# Altium footprint library Altium Example Master PCB Library End.PcbLib: 217 footprints (part 7 of 14)
Each footprint in its own frame and in the unit in brackets; x right, y up, seen from the top. Pads: shape width x height; smd on the part's side, far side on the other; paste and mask are expansions set on the pad; w line width, h text height; cw(c..) or ccw(c..) is an arc to the next point about the centre after c.
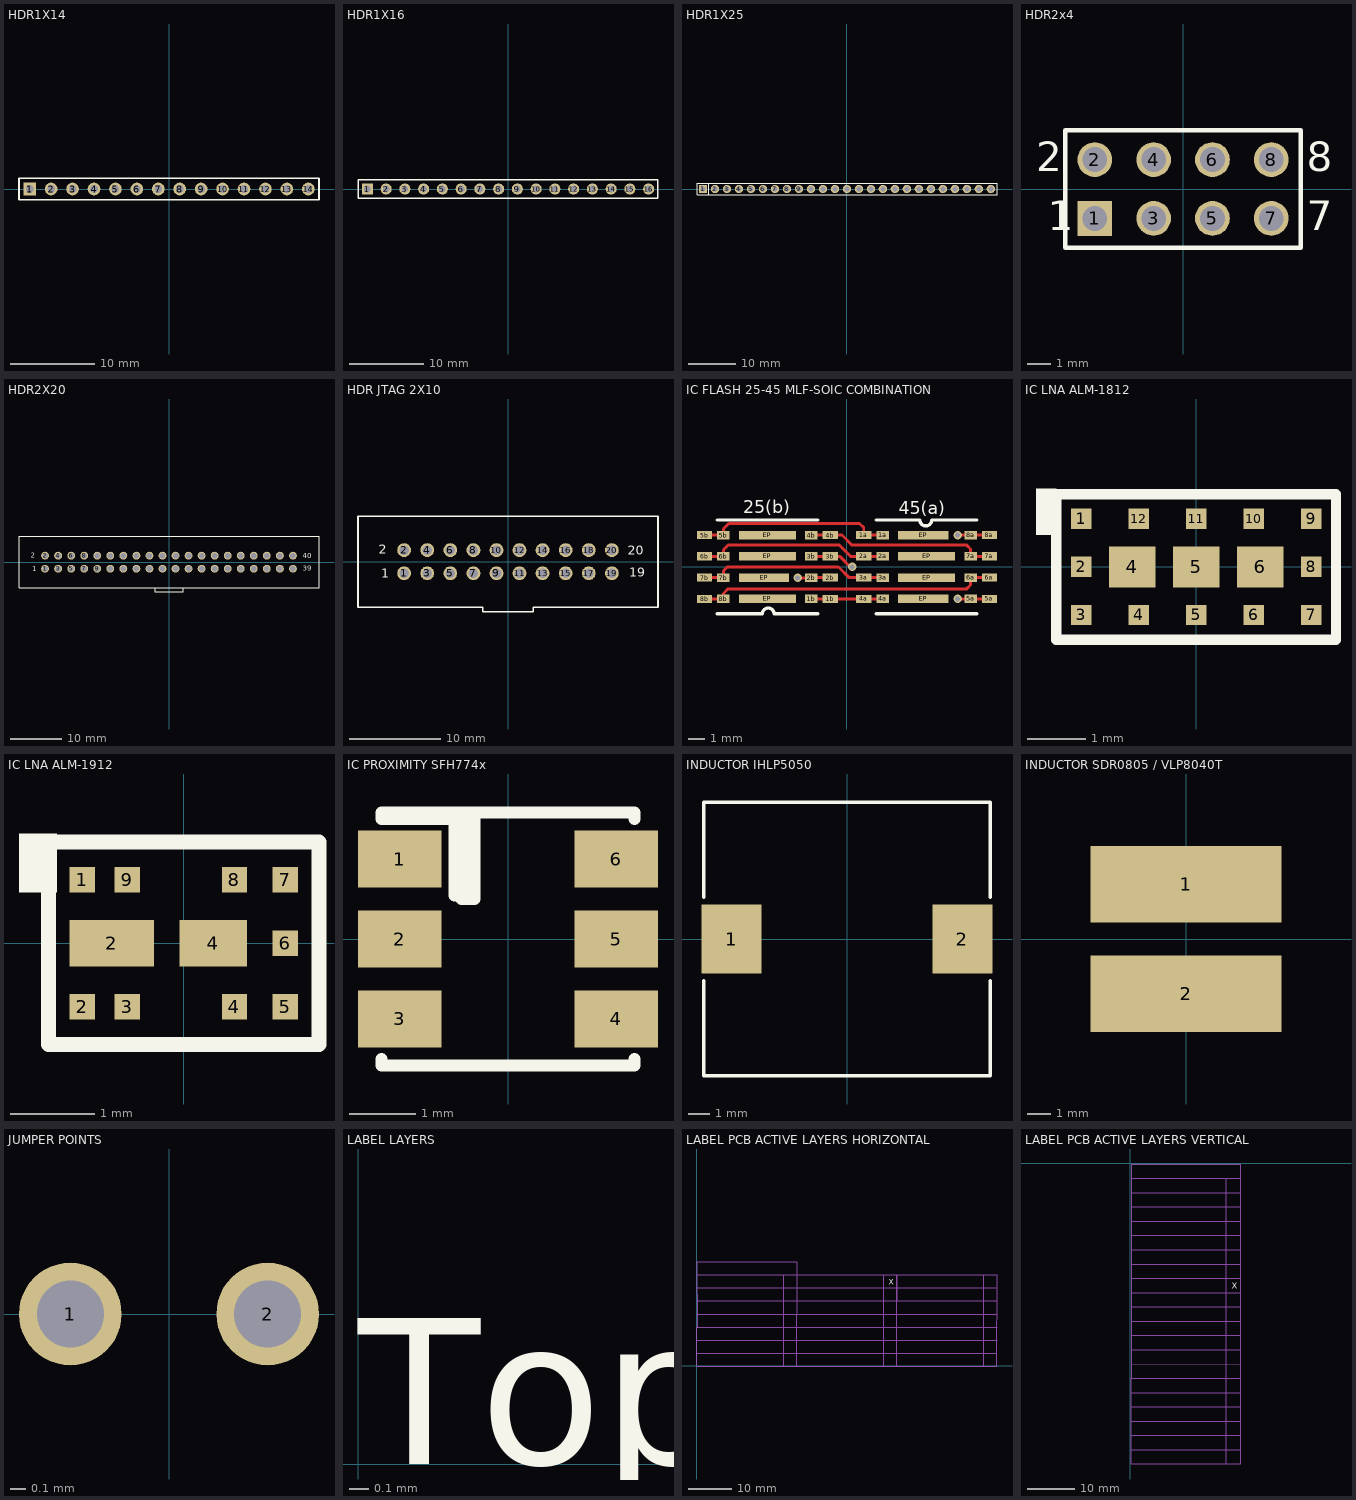
[diagram p6: the footprints below, top view; thin cyan lines are the x and y axes]

## HDR1X14 [mm] "Connector; Header; 14 Position"
pads (14):
  rect 1.5x1.5 hole 0.9: 1(-16.51,0)
  round 1.5 hole 0.9: 2(-13.97,0) 3(-11.43,0) 4(-8.89,0) 5(-6.35,0) 6(-3.81,0) 7(-1.27,0) 8(1.27,0) 9(3.81,0) 10(6.35,0) 11(8.89,0) 12(11.43,0) 13(13.97,0) 14(16.51,0)
Top Overlay:
  lines w0.2: -17.78,-1.27 -17.78,1.27 -15.875,1.27 17.78,1.27 17.78,-1.27 -17.78,-1.27

## HDR1X16 [mm] "Connector; Header; 16 Position"
pads (16):
  rect 1.5x1.5 hole 0.9: 1(-19.05,0)
  round 1.5 hole 0.9: 2(-16.51,0) 3(-13.97,0) 4(-11.43,0) 5(-8.89,0) 6(-6.35,0) 7(-3.81,0) 8(-1.27,0) 9(1.27,0) 10(3.81,0) 11(6.35,0) 12(8.89,0) 13(11.43,0) 14(13.97,0) 15(16.51,0) 16(19.05,0)
Top Overlay:
  lines w0.2: -20.32,-1.27 -20.32,1.27 -18.415,1.27 20.32,1.27 20.32,-1.27 -20.32,-1.27

## HDR1X25 [mil]
pads (25):
  rect 70x70 hole 42: 1(-1200,0)
  round 70 hole 42: 2(-1100,0) 3(-1000,0) 4(-900,0) 5(-800,0) 6(-700,0) 7(-600,0) 8(-500,0) 9(-400,0) 10(-300,0) 11(-200,0) 12(-100,0) 13(0,0) 14(100,0) 15(200,0) 16(300,0) 17(400,0) 18(500,0) 19(600,0) 20(700,0) 21(800,0) 22(900,0) 23(1000,0) 24(1100,0) 25(1200,0)
Top Overlay:
  lines w8: -1150,-50 -1150,50 ; -1250,-50 -1250,50 1251.18,50 1251.18,-50 -1250,-50

## HDR2x4 [mm]
pads (8):
  rect 1.5x1.5 hole 1.067: 1(-3.81,-1.27)
  round 1.5 hole 1.067: 2(-3.81,1.27) 3(-1.27,-1.27) 4(-1.27,1.27) 5(1.27,-1.27) 6(1.27,1.27) 7(3.81,-1.27) 8(3.81,1.27)
Top Overlay:
  lines w0.2: -5.08,-2.54 5.08,-2.54 5.08,2.54 -5.08,2.54 -5.08,-2.54
  text "2" at -6.35,0.762 h1.27
  text "1" at -5.842,-1.778 h1.27
  text "7" at 5.334,-1.778 h1.27
  text "8" at 5.334,0.762 h1.27

## HDR2X20 [mil]
pads (40):
  round 60 hole 42: 1(-950,-50) 2(-950,50) 3(-850,-50) 4(-850,50) 5(-750,-50) 6(-750,50) 7(-650,-50) 8(-650,50) 9(-550,-50) 10(-550,50) 11(-450,-50) 12(-450,50) 13(-350,-50) 14(-350,50) 15(-250,-50) 16(-250,50) 17(-150,-50) 18(-150,50) 19(-50,-50) 20(-50,50) 21(50,-50) 22(50,50) 23(150,-50) 24(150,50) 25(250,-50) 26(250,50) 27(350,-50) 28(350,50) 29(450,-50) 30(450,50) 31(550,-50) 32(550,50) 33(650,-50) 34(650,50) 35(750,-50) 36(750,50) 37(850,-50) 38(850,50) 39(950,-50) 40(950,50)
Top Overlay:
  lines w7: -110.24,-196.85 -110,-225 110,-225 110.24,-196.85 ; -1150,-196.85 1150,-196.85 1150,196.85 -1150,196.85 -1150,-196.85
  text "1" at -1050,-70 h40
  text "2" at -1060,35 h40
  text "39" at 1025,-65 h40
  text "40" at 1025,30 h40

## HDR JTAG 2X10 [mil]
pads (20):
  round 60 hole 42: 1(-450,-50) 2(-450,50) 3(-350,-50) 4(-350,50) 5(-250,-50) 6(-250,50) 7(-150,-50) 8(-150,50) 9(-50,-50) 10(-50,50) 11(50,-50) 12(50,50) 13(150,-50) 14(150,50) 15(250,-50) 16(250,50) 17(350,-50) 18(350,50) 19(450,-50) 20(450,50)
Top Overlay:
  lines w7: -650,-196.85 -650,196.85 650,196.85 650,-196.85 110,-196.85 110,-216.85 -110,-216.85 -110,-196.85 -650,-196.85
  text "1" at -550,-70 h40
  text "2" at -560,35 h40
  text "19" at 525,-65 h40
  text "20" at 520,30 h40

## IC FLASH 25-45 MLF-SOIC COMBINATION [mm]
pads (40):
  rect 0.9x0.49 smd: 1a(1,1.905) 1b(-1,-1.905) 2a(1,0.635) 2b(-1,-0.635) 3a(1,-0.635) 3b(-1,0.635) 4a(1,-1.905) 4b(-1,1.905) 5a(8.5,-1.905) 5b(-8.5,1.905) 6a(8.5,-0.635) 6b(-8.5,0.635) 7a(8.5,0.635) 7b(-8.5,-0.635) 8a(8.5,1.905) 8b(-8.5,-1.905)
  rect 0.75x0.5 smd: 1a(2.125,1.905) 1b(-2.125,-1.905) 2a(2.125,0.635) 2b(-2.125,-0.635) 3a(2.125,-0.635) 3b(-2.125,0.635) 4a(2.125,-1.905) 4b(-2.125,1.905) 5a(7.375,-1.905) 5b(-7.375,1.905) 6a(7.375,-0.635) 6b(-7.375,0.635) 7a(7.375,0.635) 7b(-7.375,-0.635) 8a(7.375,1.905) 8b(-7.375,-1.905)
  rect 3x0.5 smd: EP(-4.95,-0.65) EP(4.55,-1.9) EP(4.55,1.9)
  rect 3.4x0.5 smd: EP(-4.75,-1.905) EP(-4.75,0.65) EP(-4.75,1.905) EP(4.75,-0.65) EP(4.75,0.65)
via 0.3,0 diameter 0.508 hole 0.305
via 6.6,-1.9 diameter 0.508 hole 0.305
via -2.95,-0.65 diameter 0.508 hole 0.305
via 6.6,1.9 diameter 0.508 hole 0.305
Top Layer:
  lines w0.178: -8.5,-1.905 -7.375,-1.905 -7.375,-1.575 -7.1,-1.3 7.15,-1.3 7.375,-1.075 7.375,-0.975 7.375,-0.635 8.5,-0.635 ; -8.5,-0.635 -7.375,-0.635 -7.375,-0.225 -7.15,0 -0.5,0 0.135,-0.635 1,-0.635 2.125,-0.635 ; -8.5,0.635 -7.375,0.635 -7.375,1.025 -7.1,1.3 -0.45,1.3 0.215,0.635 1,0.635 2.125,0.635 ; -8.5,1.905 -7.375,1.905 -7.375,2.275 -7.05,2.6 0.75,2.6 1,2.35 1,1.905 2.125,1.905 ; -2.95,-0.65 -2.14,-0.65 ; -2.125,-1.905 -1,-1.905 1,-1.905 2.125,-1.905 ; -2.125,-0.635 -1,-0.635 ; -2.125,0.635 -1,0.635 -0.435,0.635 0.2,0 ; -2.125,1.905 -1,1.905 -0.305,1.905 0.3,1.3 ; 0.7,1.3 0.3,1.3 ; 6.6,1.9 6.605,1.905 7.375,1.905 8.5,1.905 ; 6.605,-1.905 7.375,-1.905 8.5,-1.905 ; 8.5,0.635 7.375,0.635 7.375,1.075 7.15,1.3 0.3,1.3
Top Overlay:
  lines w0.2: -7.75,-2.8 -5.05,-2.8 cw(c-4.7,-2.8) -4.35,-2.8 -1.75,-2.8 ; -7.75,2.8 -1.75,2.8 ; 1.75,-2.8 7.75,-2.8 ; 4.065,2.8 1.75,2.8 4.35,2.8 ccw(c4.7,2.8) 5.05,2.8 7.75,2.8 5.335,2.8
  text "25(b)" at -6.2,3.2 h0.76
  text "45(a)" at 3.1,3.15 h0.76

## IC LNA ALM-1812 [mm]
pads (15):
  rect 0.35x0.35 smd: 1(-1.975,0.825) 2(-1.975,0) 3(-1.975,-0.825) 4(-0.988,-0.825) 5(0,-0.825) 6(0.988,-0.825) 7(1.975,-0.825) 8(1.975,0) 9(1.975,0.825) 10(0.988,0.825) 11(0,0.825) 12(-0.988,0.825)
  rect 0.8x0.7 smd: 4(-1.1,0) 5(0,0) 6(1.1,0)
Top Overlay:
  rectangle: -2.75,0.55 -2.4,1.35
  lines w0.178: -2.4,-1.25 -2.4,1.25 2.4,1.25 2.4,-1.25 -2.4,-1.25

## IC LNA ALM-1912 [mm]
pads (11):
  rect 0.3x0.3 smd: 1(-1.2,0.75) 2(-1.2,-0.75) 3(-0.67,-0.75) 4(0.6,-0.75) 5(1.2,-0.75) 6(1.2,0) 7(1.2,0.75) 8(0.6,0.75) 9(-0.67,0.75)
  rect 1x0.55 smd: 2(-0.85,0)
  rect 0.8x0.55 smd: 4(0.35,0)
Top Overlay:
  rectangle: -1.95,0.6 -1.5,1.3
  lines w0.178: -1.6,-1.2 -1.6,1.2 1.6,1.2 1.6,-1.2 -1.6,-1.2

## IC PROXIMITY SFH774x [mm]
pads (6):
  rect 1.25x0.85 smd: 1(-1.625,1.2) 2(-1.625,0) 3(-1.625,-1.2) 4(1.625,-1.2) 5(1.625,0) 6(1.625,1.2)
Top Overlay:
  lines w0.178: -1.9,-1.8 -1.9,-1.9 1.9,-1.9 1.9,-1.8 ; -0.8,0.65 -0.8,1.9 ; -0.8,1.8 -1.9,1.8 -1.9,1.9 1.9,1.9 1.9,1.8 ; -0.65,1.9 -0.65,0.65 -0.7,0.6 -0.5,0.6 -0.5,1.9

## INDUCTOR IHLP5050 [mm]
pads (2):
  rect 2.85x3.3 smd: 1(-5.475,0) 2(5.475,0)
Top Overlay:
  lines w0.178: -6.8,-2 -6.8,-6.5 6.8,-6.5 6.8,-2 ; -6.8,2 -6.8,6.5 6.8,6.5 6.8,2

## INDUCTOR SDR0805 / VLP8040T [mm]
pads (2):
  rect 8.2x3.3 smd: 1(0,2.35) 2(0,-2.35)

## JUMPER POINTS [mil]
pads (2):
  round 26 hole 17: 1(-25,0) 2(25,0)

## LABEL LAYERS [mm]
Top Layer:
  text "Top Layer" at 0,0 h1.52
MidLayer1:
  text "Mid Layer 1" at 0,0 h1.52
MidLayer2:
  text "Mid Layer 2" at 0,0 h1.52
MidLayer3:
  text "Mid Layer 3" at 0,0 h1.52
MidLayer4:
  text "Mid Layer 4" at 0,0 h1.52
Bottom Layer:
  text "Bottom Layer" at 26.5,0 h1.52
Top Overlay:
  text "Top Overlay" at 0,0 h1.52
Bottom Overlay:
  text "Bottom Overlay" at 26.5,0 h1.52
Top Paste:
  text "Top Paste" at 0,0 h1.52
Bottom Paste:
  text "Bottom Paste" at 26.5,0 h1.52
Top Solder:
  text "Top Solder Mask" at 0,0 h1.52
Bottom Solder:
  text "Bottom Solder Mask" at 26.5,0 h1.52
Keep-Out Layer:
  text "Keepout Layer" at 0,0 h1.52
Mechanical 1:
  text "Mechanical Layer `" at 0,0 h1.52
Mechanical 2:
  text "Mechanical Layer 2" at 0,0 h1.52
Mechanical 3:
  text "Mechanical Layer 3" at 0,0 h1.52
Mechanical 4:
  text "Mechanical Layer 4" at 26.5,0 h1.52
Mechanical 5:
  text "Mechanical Layer 5" at 0,0 h1.52
Mechanical 6:
  text "Mechanical Layer 6" at 0,0 h1.52

## LABEL PCB ACTIVE LAYERS HORIZONTAL [mm]
Top Layer:
  text "X" at 21.031,18.618 h1.27
MidLayer1:
  text "X" at 21.031,15.672 h1.27
MidLayer2:
  text "X" at 21.031,12.649 h1.27
MidLayer3:
  text "X" at 21.031,9.728 h1.27
MidLayer4:
  text "X" at 21.031,6.655 h1.27
Bottom Layer:
  text "X" at 21.031,3.759 h1.27
Top Overlay:
  text "X" at 44.089,18.621 h1.27
Bottom Overlay:
  text "X" at 44.089,15.621 h1.27
Top Paste:
  text "X" at 44.128,12.739 h1.27
Bottom Paste:
  text "X" at 44.128,9.739 h1.27
Top Solder:
  text "X" at 44.128,6.739 h1.27
Bottom Solder:
  text "X" at 44.128,3.739 h1.27
Keep-Out Layer:
  text "X" at 67.064,0.714 h1.27
Mechanical 1:
  text "X" at 67.025,18.731 h1.27
Mechanical 2:
  lines w0.178: 0.038,-0.107 69.038,-0.107 ; 0.038,0 0.038,8.886 ; 0.038,2.886 69.038,2.886 ; 0.038,5.886 23.038,5.886 46.038,5.886 69.038,5.886 ; 0.038,11.886 23.038,11.886 ; 0.038,14.886 23.038,14.886 46.038,14.886 ; 0.038,17.886 23.038,17.886 46.038,17.886 69.038,17.886 ; 0.038,20.886 23.038,20.886 46.038,20.886 ; 20.038,0 20.038,20.886 ; 23.038,0 23.038,23.886 0.038,23.886 ; 43.038,0 43.038,20.886 ; 46.038,0 46.038,20.886 ; 66.038,0 66.038,20.886 ; 69.038,0 69.038,20.886 46.038,20.886 ; 69.038,8.886 46.038,8.886 23.038,8.886 0.038,8.886 ; 69.038,11.886 46.038,11.886 23.038,11.886 ; 69.038,14.886 46.038,14.886 ; 0.038,8.886 0.038,23.886 ; 0.038,8.886 0.038,8.886 ; 0.038,23.886 0.038,23.886 ; 23.038,11.886 23.038,11.886 ; 46.038,14.886 46.038,20.886
  text "Midlayer3" at 1.038,9.886 h1.27
  text "MidLayer1" at 1.038,15.886 h1.27
  text "MidLayer2" at 1.038,12.886 h1.27
  text "Top Layer" at 1.038,18.886 h1.27
  text "Active PCB Layers" at 1.038,21.886 h1.27
  text "MidLayer4" at 1.038,6.886 h1.27
  text "Bottom Layer" at 1.038,3.886 h1.27
  text "Top Overlay" at 24.089,18.621 h1.27
  text "Top Paste" at 24.128,12.739 h1.27
  text "Bottom Overlay" at 24.089,15.621 h1.27
  text "Bottom Paste" at 24.128,9.739 h1.27
  text "Top Solder" at 24.128,6.739 h1.27
  text "Bottom Solder" at 24.128,3.739 h1.27
  text "Multi-layer" at 1.039,0.711 h1.27
  text "Keep-Out Layer" at 47.064,0.714 h1.27
  text "X" at 67.031,15.773 h1.27
  text "Mechanical2" at 47.025,15.835 h1.27
  text "Mechanical3" at 47.025,12.835 h1.27
  text "Mechanical4" at 47.025,9.835 h1.27
  text "Mechanical5" at 47.041,6.858 h1.27
  text "Mechanical6" at 47.041,3.734 h1.27
  text "Mechanical1" at 47.025,18.731 h1.27
Mechanical 3:
  text "X" at 67.031,12.7 h1.27
Mechanical 4:
  text "X" at 67.031,9.754 h1.27
Mechanical 5:
  text "X" at 67.031,6.858 h1.27
Mechanical 6:
  text "X" at 67.031,3.734 h1.27
Multi-Layer:
  text "X" at 21.039,0.711 h1.27

## LABEL PCB ACTIVE LAYERS VERTICAL [mm]
Top Layer:
  text "X" at 21.255,-5.323 h1.27
MidLayer1:
  text "X" at 21.255,-8.323 h1.27
MidLayer2:
  text "X" at 21.255,-11.323 h1.27
MidLayer3:
  text "X" at 21.255,-14.323 h1.27
MidLayer4:
  text "X" at 21.255,-17.323 h1.27
Bottom Layer:
  text "X" at 21.255,-20.323 h1.27
Top Overlay:
  text "X" at 21.255,-26.324 h1.27
Bottom Overlay:
  text "X" at 21.255,-29.324 h1.27
Top Paste:
  text "X" at 21.255,-32.324 h1.27
Bottom Paste:
  text "X" at 21.255,-35.324 h1.27
Top Solder:
  text "X" at 21.255,-38.325 h1.27
Bottom Solder:
  text "X" at 21.255,-41.325 h1.27
Keep-Out Layer:
  text "X" at 21.255,-62.326 h1.27
Mechanical 1:
  text "X" at 21.255,-44.325 h1.27
Mechanical 2:
  lines w0.178: 0.173,-60.138 23.173,-60.138 ; 0.173,-57.138 23.173,-57.138 ; 0.173,-54.138 23.173,-54.138 ; 0.173,-51.138 23.173,-51.138 ; 0.173,-48.138 23.173,-48.138 ; 0.173,-42.138 23.173,-42.138 ; 0.173,-39.138 23.173,-39.138 ; 0.173,-36.138 23.173,-36.138 ; 0.173,-33.138 23.173,-33.138 ; 0.173,-27.138 23.173,-27.138 ; 0.173,-24.138 23.173,-24.138 ; 0.173,-21.138 23.173,-21.138 ; 0.173,-18.138 23.173,-18.138 ; 0.173,-12.138 23.173,-12.138 ; 0.173,-9.138 23.173,-9.138 ; 0.173,-6.138 23.173,-6.138 ; 0.173,-3.138 23.173,-3.138 ; 20.173,-63.138 20.173,-3.138 ; 23.173,-45.138 0.173,-45.138 ; 23.173,-30.138 0.173,-30.138 ; 23.173,-15.138 0.173,-15.138 ; 0.173,-45.138 0.173,-30.138 ; 0.173,-45.138 0.173,-45.138 ; 0.173,-45.138 0.173,-63.138 23.173,-63.138 23.173,-0.138 0.173,-0.138 ; 0.173,-30.138 0.173,-15.138 ; 0.173,-30.138 0.173,-30.138 ; 0.173,-15.138 0.173,-0.138 ; 0.173,-15.138 0.173,-15.138 ; 0.173,-0.138 0.173,-0.138
  text "Mechanical6" at 1.189,-59.265 h1.27
  text "Mechanical5" at 1.189,-56.265 h1.27
  text "Midlayer3" at 1.189,-14.138 h1.27
  text "MidLayer4" at 1.189,-17.138 h1.27
  text "MidLayer1" at 1.189,-8.138 h1.27
  text "MidLayer2" at 1.189,-11.138 h1.27
  text "Top Layer" at 1.189,-5.138 h1.27
  text "Active PCB Layers" at 1.173,-2.138 h1.27
  text "Bottom Layer" at 1.189,-20.138 h1.27
  text "Mechanical2" at 1.189,-47.246 h1.27
  text "Mechanical1" at 1.189,-44.246 h1.27
  text "Mechanical3" at 1.189,-50.246 h1.27
  text "Mechanical4" at 1.189,-53.246 h1.27
  text "Top Overlay" at 1.189,-26.223 h1.27
  text "Top Paste" at 1.189,-32.223 h1.27
  text "Bottom Overlay" at 1.189,-29.223 h1.27
  text "Bottom Paste" at 1.189,-35.223 h1.27
  text "Top Solder" at 1.189,-38.223 h1.27
  text "Bottom Solder" at 1.189,-41.223 h1.27
  text "Multi-layer" at 1.189,-23.372 h1.27
  text "Keep-Out Layer" at 1.189,-62.282 h1.27
  text "X" at 21.255,-47.325 h1.27
Mechanical 3:
  text "X" at 21.255,-50.325 h1.27
Mechanical 4:
  text "X" at 21.255,-53.326 h1.27
Mechanical 5:
  text "X" at 21.255,-56.326 h1.27
Mechanical 6:
  text "X" at 21.255,-59.326 h1.27
Multi-Layer:
  text "X" at 21.255,-23.324 h1.27